# EAGLE library part HR911105A (library vocore_dock)
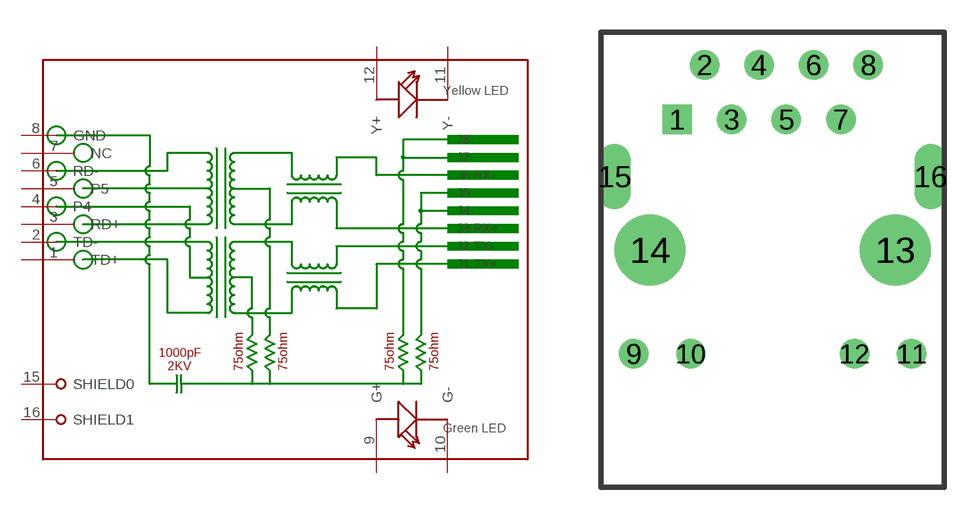
[diagram p0: symbol with the pads of RJ45ALED_1PRIMARY; footprint RJ45ALED_1PRIMARY]

Designator prefix -

## HR911105AHR911105A  [RJ45ALED_1PRIMARY]
1  TD+
2  TD-
3  RD+
4  P4
5  P5
6  RD-
7  NC
8  GND
9  G+
10  G-
11  Y-
12  Y+
15  SHIELD0
16  SHIELD1

## Footprint RJ45ALED_1PRIMARY (pad centres in mm)
Original name RJ45ALED
drill 0.864 pad 1.27 square: 1 3.556,17.145
drill 0.864 pad 1.27: 2 4.826,19.685; 3 6.096,17.145; 4 7.366,19.685; 5 8.636,17.145; 6 9.906,19.685; 7 11.176,17.145; 8 12.446,19.685; 9 1.524,6.223; 10 4.191,6.223; 11 14.478,6.223; 12 11.811,6.223
drill 2.286 pad 2.286: 13 13.716,11.049; 14 2.286,11.049
drill 1.016 pad 1.372 long: 15 0.635,14.478; 16 15.367,14.478